# EAGLE library part AP9221SA-CC-HAC-7 (library AP9221SA-CC-HAC-7)
Battery Management Multicell Batt Manager U-DFN2030-6 T&R 3K Source: Datasheet <https://www.diodes.com/assets/Datasheets/AP9221.pdf>
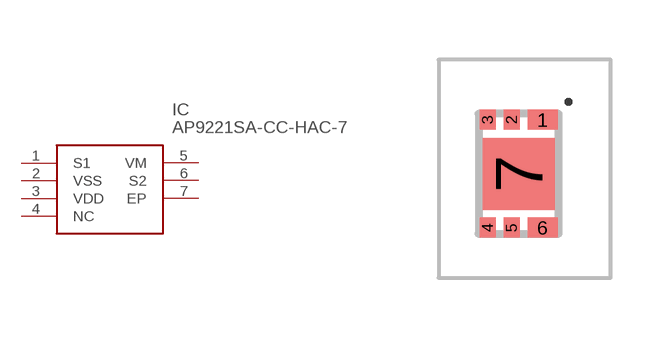
[diagram p0: symbol with the pads of AP9211SAANHAC7; footprint AP9211SAANHAC7]

Designator prefix IC

## AP9221SA-CC-HAC-7 (Arrow_Part_Number: AP9221SA-CC-HAC-7; Arrow_Price-Stock: https://www.arrow.com/en/products/ap9221sa-cc-hac-7/diodes-incorporated; Description: Battery Management Multicell Batt Manager U-DFN2030-6 T&R 3K; Height: 0.6mm; Manufacturer_Name: Diodes Inc.; Manufacturer_Part_Number: AP9221SA-CC-HAC-7; Mouser_Part_Number: 621-AP9221SA-CCHAC-7; Mouser_Price-Stock: https://www.mouser.co.uk/ProductDetail/Diodes-Incorporated/AP9221SA-CC-HAC-7/?qs=xZ%2FP%252Ba9zWqYP2BSSx9w0XQ%3D%3D)  [AP9211SAANHAC7]
1  S1
2  VSS
3  VDD
4  NC  nc
5  VM
6  S2
7  EP

## Footprint AP9211SAANHAC7 (pad centres in mm)
U-DFN2030-6 (Type C)_1
smd 0.75 x 0.5: 1 0.6,1.35; 6 0.6,-1.35
smd 0.4 x 0.5: 2 -0.175,1.35; 3 -0.775,1.35; 4 -0.775,-1.35; 5 -0.175,-1.35
smd 1.8 x 1.8: 7 0,0